# Altium schematic symbol library WRIS-PSMC.SchLib: 4 symbols
Pins are listed as number, name and electrical type; pins without a type are passive.

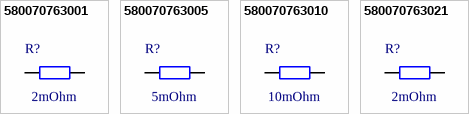
[diagram p0: symbols 580070763001 to 580070763021]

## 580070763001
designator R?, comment 2mOhm
WRIS-PSMC Metal Plate Resistor, SMT, size 2512, 2mOhm, +/-1%; Manufacturer Part Number: 580070763001; Manufacturer: Wurth Elektronik; Case/Size Code: 2512; Rated Current: 31.62A; Rated Power: 2W; Temperature Coefficient of Resistance: +/-100ppm/°C; Category: Metal Plate Resistors; Match Code: WRIS-PSMC; ComponentLink1Description: Website Link; ComponentLink1URL: https://www.we-online.com/redexpert/article/580070763001?ad; ComponentLink2Description: Datasheet Link; ComponentLink2URL: https://www.we-online.com/redexpert/spec/580070763001?ad; Mount: Surface Mount; Operating Temperature Min: -40°C; Operating Temperature Max: 125°C; Packaging: Tape and Reel; Length: 6.3mm; Width: 3.1mm; Height: 0.58mm; Resistance: 2mOhm; Resistance Tolerance: +/-1%
footprint WRIS-PSMC_2512_L6.3W3.1H0.58
pins: 1, 2

## 580070763005
designator R?, comment 5mOhm
WRIS-PSMC Metal Plate Resistor, SMT, size 2512, 5mOhm, +/-1%; Manufacturer Part Number: 580070763005; Manufacturer: Wurth Elektronik; Case/Size Code: 2512; Rated Current: 20A; Rated Power: 2W; Temperature Coefficient of Resistance: +/-100ppm/°C; Category: Metal Plate Resistors; Match Code: WRIS-PSMC; ComponentLink1Description: Website Link; ComponentLink1URL: https://www.we-online.com/redexpert/article/580070763005?ad; ComponentLink2Description: Datasheet Link; ComponentLink2URL: https://www.we-online.com/redexpert/spec/580070763005?ad; Mount: Surface Mount; Operating Temperature Min: -55°C; Operating Temperature Max: 155°C; Packaging: Tape and Reel; Length: 6.3mm; Width: 3.1mm; Height: 0.51mm; Resistance: 5mOhm; Resistance Tolerance: +/-1%
footprint WRIS-PSMC_2512_L6.3W3.1H0.51
pins: 1, 2

## 580070763010
designator R?, comment 10mOhm
WRIS-PSMC Metal Plate Resistor, SMT, size 2512, 10mOhm, +/-1%; Manufacturer Part Number: 580070763010; Manufacturer: Wurth Elektronik; Case/Size Code: 2512; Rated Current: 14.14A; Rated Power: 2W; Temperature Coefficient of Resistance: +/-100ppm/°C; Category: Metal Plate Resistors; Match Code: WRIS-PSMC; ComponentLink1Description: Website Link; ComponentLink1URL: https://www.we-online.com/redexpert/article/580070763010?ad; ComponentLink2Description: Datasheet Link; ComponentLink2URL: https://www.we-online.com/redexpert/spec/580070763010?ad; Mount: Surface Mount; Operating Temperature Min: -55°C; Operating Temperature Max: 155°C; Packaging: Tape and Reel; Length: 6.3mm; Width: 3.1mm; Height: 0.35mm; Resistance: 10mOhm; Resistance Tolerance: +/-1%
footprint WRIS-PSMC_2512_L6.3W3.1H0.35
pins: 1, 2

## 580070763021
designator R?, comment 2mOhm
WRIS-PSMC Metal Plate Resistor, SMT, size 2512, 2mOhm, +/-5%; Manufacturer Part Number: 580070763021; Manufacturer: Wurth Elektronik; Case/Size Code: 2512; Rated Current: 31.62A; Rated Power: 2W; Temperature Coefficient of Resistance: +/-100ppm/°C; Category: Metal Plate Resistors; Match Code: WRIS-PSMC; ComponentLink1Description: Website Link; ComponentLink1URL: https://www.we-online.com/redexpert/article/580070763021?ad; ComponentLink2Description: Datasheet Link; ComponentLink2URL: https://www.we-online.com/redexpert/spec/580070763021?ad; Mount: Surface Mount; Operating Temperature Min: -55°C; Operating Temperature Max: 155°C; Packaging: Tape and Reel; Length: 6.3mm; Width: 3.1mm; Height: 0.58mm; Resistance: 2mOhm; Resistance Tolerance: +/-5%
footprint WRIS-PSMC_2512_L6.3W3.1H0.58
pins: 1, 2